# EAGLE library part FPC45 (library microbuilder)
FPC Connector - 45 Pin 0.5mm Bottom Contacts Digikey: 609-1196-1-ND
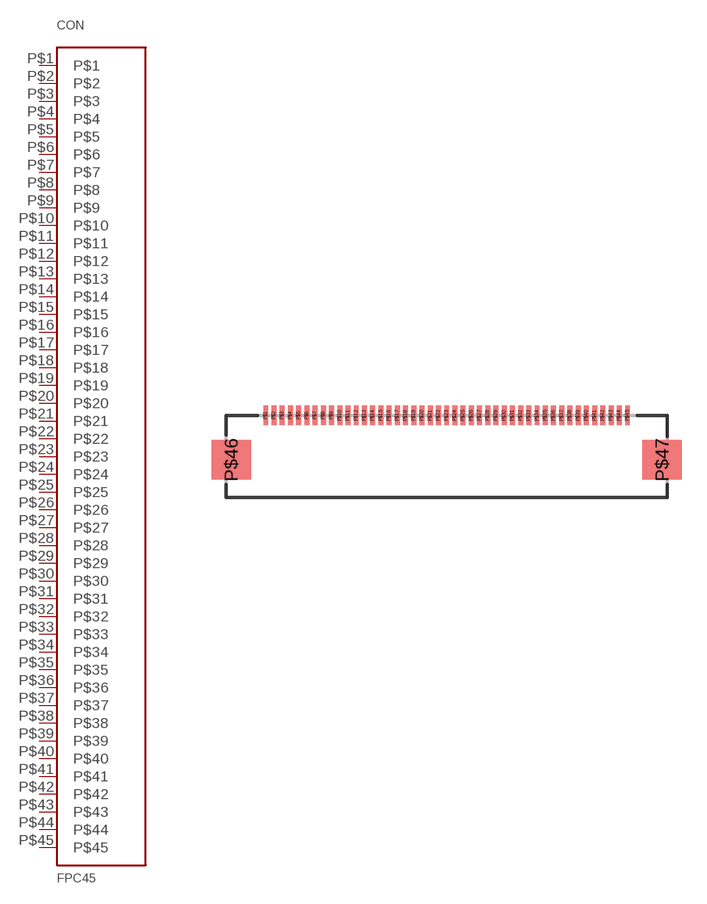
[diagram p120: symbol with the pads of FPC45PIN; footprint FPC45PIN]

Designator prefix CON

## FPC45  [FPC45PIN]
P$1  P$1
P$2  P$2
P$3  P$3
P$4  P$4
P$5  P$5
P$6  P$6
P$7  P$7
P$8  P$8
P$9  P$9
P$10  P$10
P$11  P$11
P$12  P$12
P$13  P$13
P$14  P$14
P$15  P$15
P$16  P$16
P$17  P$17
P$18  P$18
P$19  P$19
P$20  P$20
P$21  P$21
P$22  P$22
P$23  P$23
P$24  P$24
P$25  P$25
P$26  P$26
P$27  P$27
P$28  P$28
P$29  P$29
P$30  P$30
P$31  P$31
P$32  P$32
P$33  P$33
P$34  P$34
P$35  P$35
P$36  P$36
P$37  P$37
P$38  P$38
P$39  P$39
P$40  P$40
P$41  P$41
P$42  P$42
P$43  P$43
P$44  P$44
P$45  P$45

## Footprint FPC45PIN (pad centres in mm)
45-Pin 0.5mm Pitch Bottom Contacts Digikey: 609-1196-1-ND
smd 0.3 x 1.2: P$1 -11,0; P$2 -10.5,0; P$3 -10,0; P$4 -9.5,0; P$5 -9,0; P$6 -8.5,0; P$7 -8,0; P$8 -7.5,0; P$9 -7,0; P$10 -6.5,0; P$11 -6,0; P$12 -5.5,0; P$13 -5,0; P$14 -4.5,0; P$15 -4,0; P$16 -3.5,0; P$17 -3,0; P$18 -2.5,0; P$19 -2,0; P$20 -1.5,0; P$21 -1,0; P$22 -0.5,0; P$23 0,0; P$24 0.5,0; P$25 1,0; P$26 1.5,0; P$27 2,0; P$28 2.5,0; P$29 3,0; P$30 3.5,0; P$31 4,0; P$32 4.5,0; P$33 5,0; P$34 5.5,0; P$35 6,0; P$36 6.5,0; P$37 7,0; P$38 7.5,0; P$39 8,0; P$40 8.5,0; P$41 9,0; P$42 9.5,0; P$43 10,0; P$44 10.5,0; P$45 11,0
smd 2.4 x 2.4: P$46 -13.1,-2.7; P$47 13.1,-2.7